# Altium footprint library Standoff_M3_2mm.PcbLib: 1 footprints
Each footprint in its own frame and in the unit in brackets; x right, y up, seen from the top. Pads: shape width x height; smd on the part's side, far side on the other; paste and mask are expansions set on the pad; w line width, h text height; cw(c..) or ccw(c..) is an arc to the next point about the centre after c.

## Standoff_M3_2mm [mm]
Mechanical 9:
  text "'.Designator'" at -6.198,-5.732 h1.02